# Altium integrated library Analog Devices Data Converters Analog-to-Digital Converters.IntLib: 2400 symbols (part 69 of 338)
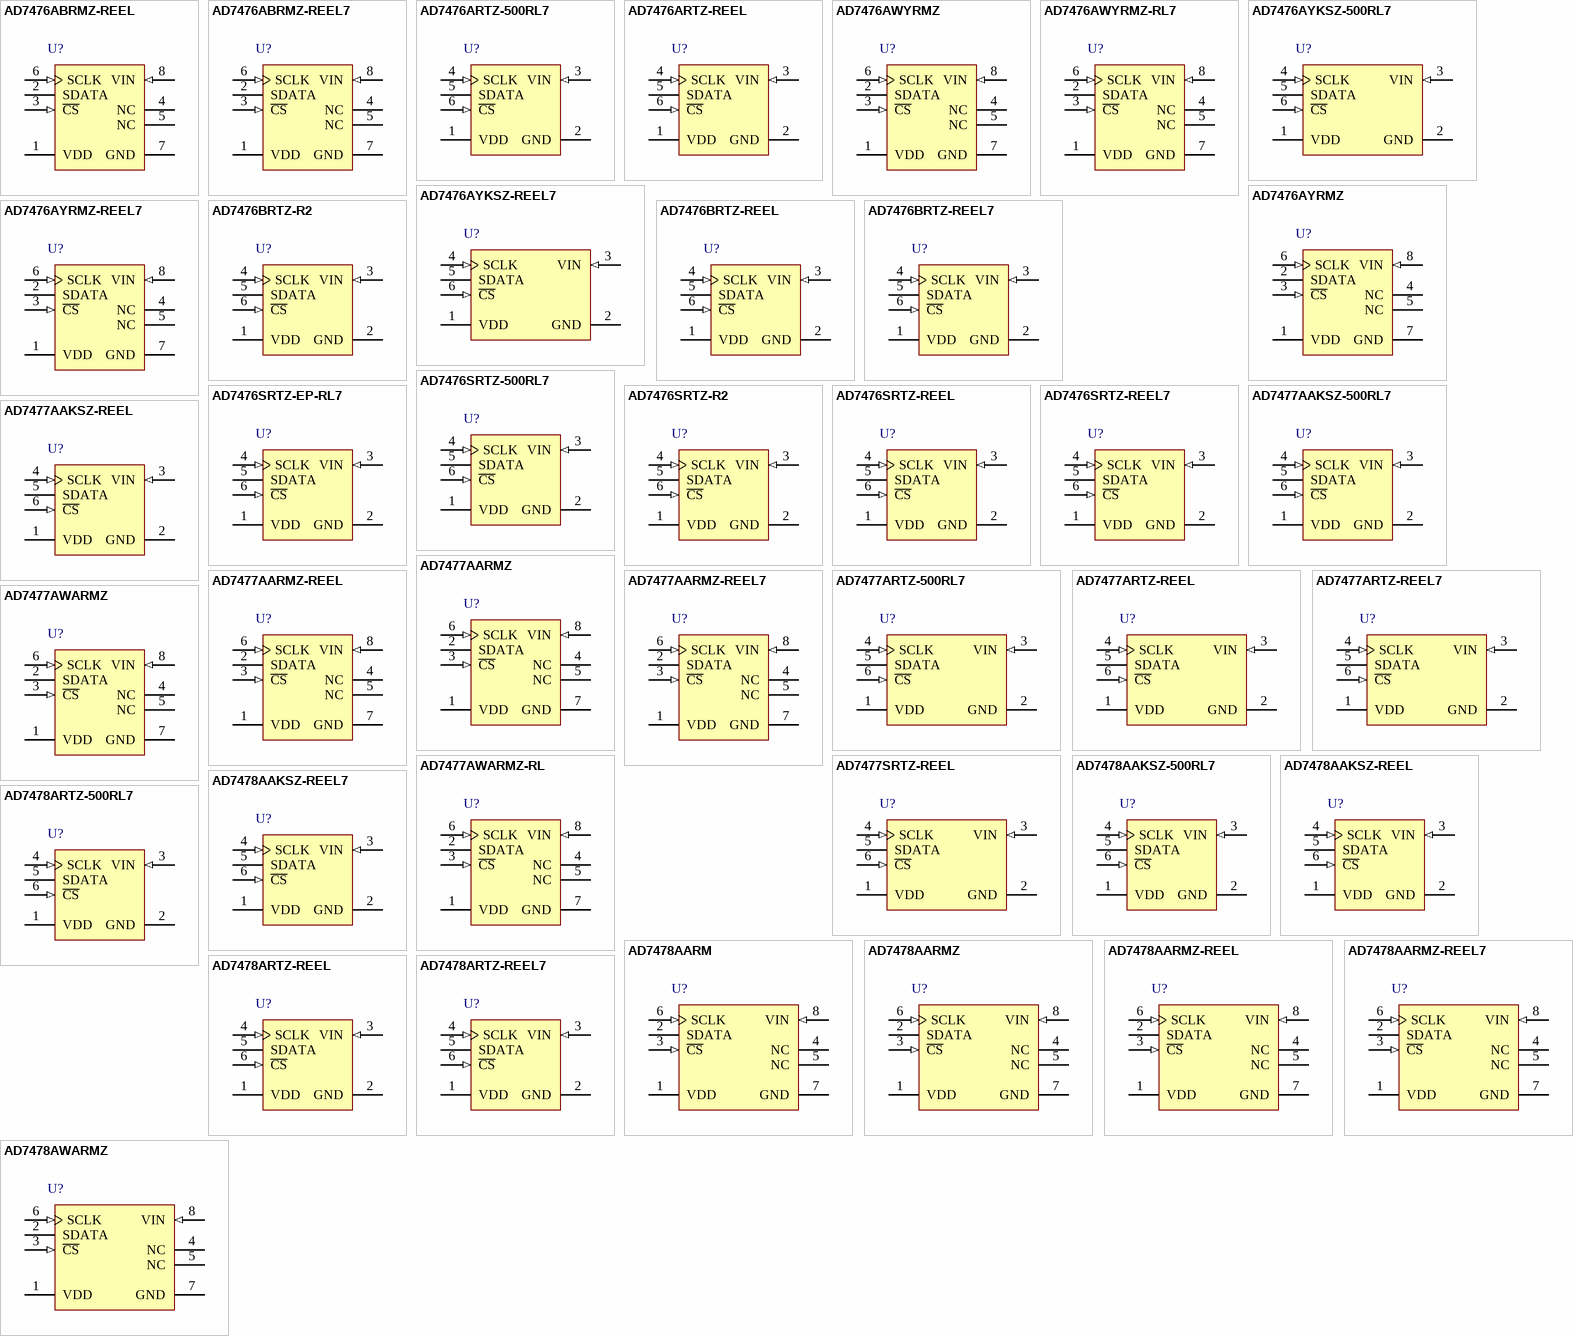
[diagram p294: symbols AD7476ABRMZ-REEL to AD7478AWARMZ]

## AD7477SRTZ-REEL
designator U?
Single 10-Bit Analog-to-Digital Converter with Serial, SPI Interface, 1MSPS, -55 to +125 degC, RJ-6, Pb-Free, Reel; Part Number: AD7477; Manufacturer: Analog Devices; Resolution (Bits): 10; Channels: 1; Throughput Rate (SPS): 1M; Interface: Ser, SPI; DatasheetVersion: Rev.F; PackageVersion: 121608-A; PackageReference: RJ-6; PackageDescription: 6-Lead Small Outline Transistor Package [SOT-23]; RoHS: Y; Packing: Reel; Mounting Technology: Surface Mount; Code_JEDEC: MO-178-AB; ComponentLink1Description: Manufacturer URL; ComponentLink1URL: http://www.analog.com/en/index.html; ComponentLink2Description: Datasheet; ComponentLink2URL: http://www.analog.com/static/imported-files/data_sheets/AD7476_7477_7478.pdf; ComponentLink3Description: Package Specification; ComponentLink3URL: http://www.analog.com/static/imported-files/packages/PKG_PDF/SOT-23(RJ)/RJ_6.pdf; ComponentLink4Description: Product URL; ComponentLink4URL: http://www.analog.com/en/analog-to-digital-converters/ad-converters/ad7477/products/product.html
footprint RJ-6_N (SOT23, 6-Leads, Body 2.9x1.6mm, Pitch 0.95mm, Lead Span 2.8mm, IPC Medium Density)
footprint RJ-6_L (SOT23, 6-Leads, Body 2.9x1.6mm, Pitch 0.95mm, Lead Span 2.8mm, IPC High Density)
footprint RJ-6_M (SOT23, 6-Leads, Body 2.9x1.6mm, Pitch 0.95mm, Lead Span 2.8mm, IPC Low Density)
pins: 1 VDD (power) "Power Supply Input. The VDD range for the AD7476/AD7477/AD7478 is from 2.35 V to 5.25 V.", 2 GND (power) "Analog Ground. Ground reference point for all circuitry on the part. All analog input signals should be referred to this GND voltage.", 3 VIN (in) "Analog Input. Single-ended analog input channel. The input range is 0 V to VDD.", 4 SCLK (in) "Serial Clock. Logic input. SCLK provides the serial clock for accessing data from the part. This clock input is also used as the clock source for the AD7477 conversion process.", 5 SDATA (hiz) "Data Out. Logic output. The conversion result is provided on this output as a serial data stream. The bits are clocked out on the falling edge of the SCLK input. The data stream from the AD7476 consists of four leading zeros (See Datasheet)", 6 ~{CS} (in) "Chip Select. Active low logic input. This input provides the dual function of initiating conversions on the AD7476/AD7477/AD7478 and framing the serial data transfer."

## AD7478AAKSZ-500RL7
designator U?
Single 8-Bit Analog-to-Digital Converter with Serial, SPI Interface,2.35 V, 1.2MSPS, -40 to +85 degC, KS-6, Pb-Free, Reel; Part Number: AD7478A; Manufacturer: Analog Devices; Resolution (Bits): 8; Channels: 1; Throughput Rate (SPS): 1.2M; Interface: Ser, SPI; Automotive Qualified: Yes; DatasheetVersion: Rev.F; PackageVersion: 072809-A; PackageReference: KS-6; PackageDescription: 6-Lead Thin Shrink Small Outline Transistor Package [SC70]; RoHS: Y; Packing: Reel; Mounting Technology: Surface Mount; Code_JEDEC: MO-203-AB; ComponentLink1Description: Manufacturer URL; ComponentLink1URL: http://www.analog.com/en/index.html; ComponentLink2Description: Datasheet; ComponentLink2URL: http://www.analog.com/static/imported-files/data_sheets/AD7476A_7477A_7478A.pdf; ComponentLink3Description: Package Specification; ComponentLink3URL: http://www.analog.com/static/imported-files/packages/PKG_PDF/SC70(KS)/KS_6.pdf; ComponentLink4Description: Product URL; ComponentLink4URL: http://www.analog.com/en/analog-to-digital-converters/ad-converters/ad7478a/products/product.html
footprint KS-6_N (SOT23, 6-Leads, Body 2x1.3mm, Pitch 0.65mm, Lead Span 2.1mm, IPC Medium Density)
footprint KS-6_L (SOT23, 6-Leads, Body 2x1.3mm, Pitch 0.65mm, Lead Span 2.1mm, IPC High Density)
footprint KS-6_M (SOT23, 6-Leads, Body 2x1.3mm, Pitch 0.65mm, Lead Span 2.1mm, IPC Low Density)
pins: 1 VDD (power) "Power Supply Input. The VDD range for AD7476A/AD7477A/AD7478A is from 2.35 V to 5.25 V.", 2 GND (power) "Analog Ground. Ground reference point for all circuitry on AD7476A/AD7477A/AD7478A. Refer all analog input signals to this GND voltage.", 3 VIN (in) "Analog Input. Single-ended analog input channel. The input range is 0 V to VDD.", 4 SCLK (in) "Serial Clock. Logic input. SCLK provides the serial clock for accessing data from the part. This clock input is also used as the clock source for the conversion process of AD7476A/AD7477A/AD7478A.", 5 SDATA (hiz) "Data Out. Logic output. The conversion result from AD7476A/AD7477A/AD7478A is provided on this output as a serial data stream. The bits are clocked out on the falling edge of the SCLK input. The data stream from the AD7476A (See Datasheet)", 6 ~{CS} (in) "Chip Select. Active low logic input. This input provides the dual function of initiating conversions on the AD7476A/AD7477A/AD7478A and also frames the serial data transfer."

## AD7478AAKSZ-REEL
designator U?
Single 8-Bit Analog-to-Digital Converter with Serial, SPI Interface,2.35 V, 1.2MSPS, -40 to +85 degC, KS-6, Pb-Free, Reel; Part Number: AD7478A; Manufacturer: Analog Devices; Resolution (Bits): 8; Channels: 1; Throughput Rate (SPS): 1.2M; Interface: Ser, SPI; Automotive Qualified: Yes; DatasheetVersion: Rev.F; PackageVersion: 072809-A; PackageReference: KS-6; PackageDescription: 6-Lead Thin Shrink Small Outline Transistor Package [SC70]; RoHS: Y; Packing: Reel; Mounting Technology: Surface Mount; Code_JEDEC: MO-203-AB; ComponentLink1Description: Manufacturer URL; ComponentLink1URL: http://www.analog.com/en/index.html; ComponentLink2Description: Datasheet; ComponentLink2URL: http://www.analog.com/static/imported-files/data_sheets/AD7476A_7477A_7478A.pdf; ComponentLink3Description: Package Specification; ComponentLink3URL: http://www.analog.com/static/imported-files/packages/PKG_PDF/SC70(KS)/KS_6.pdf; ComponentLink4Description: Product URL; ComponentLink4URL: http://www.analog.com/en/analog-to-digital-converters/ad-converters/ad7478a/products/product.html
footprint KS-6_N (SOT23, 6-Leads, Body 2x1.3mm, Pitch 0.65mm, Lead Span 2.1mm, IPC Medium Density)
footprint KS-6_L (SOT23, 6-Leads, Body 2x1.3mm, Pitch 0.65mm, Lead Span 2.1mm, IPC High Density)
footprint KS-6_M (SOT23, 6-Leads, Body 2x1.3mm, Pitch 0.65mm, Lead Span 2.1mm, IPC Low Density)
pins: 1 VDD (power) "Power Supply Input. The VDD range for AD7476A/AD7477A/AD7478A is from 2.35 V to 5.25 V.", 2 GND (power) "Analog Ground. Ground reference point for all circuitry on AD7476A/AD7477A/AD7478A. Refer all analog input signals to this GND voltage.", 3 VIN (in) "Analog Input. Single-ended analog input channel. The input range is 0 V to VDD.", 4 SCLK (in) "Serial Clock. Logic input. SCLK provides the serial clock for accessing data from the part. This clock input is also used as the clock source for the conversion process of AD7476A/AD7477A/AD7478A.", 5 SDATA (hiz) "Data Out. Logic output. The conversion result from AD7476A/AD7477A/AD7478A is provided on this output as a serial data stream. The bits are clocked out on the falling edge of the SCLK input. The data stream from the AD7476A (See Datasheet)", 6 ~{CS} (in) "Chip Select. Active low logic input. This input provides the dual function of initiating conversions on the AD7476A/AD7477A/AD7478A and also frames the serial data transfer."

## AD7478AAKSZ-REEL7
designator U?
Single 8-Bit Analog-to-Digital Converter with Serial, SPI Interface,2.35 V, 1.2MSPS, -40 to +85 degC, KS-6, Pb-Free, Reel; Part Number: AD7478A; Manufacturer: Analog Devices; Resolution (Bits): 8; Channels: 1; Throughput Rate (SPS): 1.2M; Interface: Ser, SPI; Automotive Qualified: Yes; DatasheetVersion: Rev.F; PackageVersion: 072809-A; PackageReference: KS-6; PackageDescription: 6-Lead Thin Shrink Small Outline Transistor Package [SC70]; RoHS: Y; Packing: Reel; Mounting Technology: Surface Mount; Code_JEDEC: MO-203-AB; ComponentLink1Description: Manufacturer URL; ComponentLink1URL: http://www.analog.com/en/index.html; ComponentLink2Description: Datasheet; ComponentLink2URL: http://www.analog.com/static/imported-files/data_sheets/AD7476A_7477A_7478A.pdf; ComponentLink3Description: Package Specification; ComponentLink3URL: http://www.analog.com/static/imported-files/packages/PKG_PDF/SC70(KS)/KS_6.pdf; ComponentLink4Description: Product URL; ComponentLink4URL: http://www.analog.com/en/analog-to-digital-converters/ad-converters/ad7478a/products/product.html
footprint KS-6_N (SOT23, 6-Leads, Body 2x1.3mm, Pitch 0.65mm, Lead Span 2.1mm, IPC Medium Density)
footprint KS-6_L (SOT23, 6-Leads, Body 2x1.3mm, Pitch 0.65mm, Lead Span 2.1mm, IPC High Density)
footprint KS-6_M (SOT23, 6-Leads, Body 2x1.3mm, Pitch 0.65mm, Lead Span 2.1mm, IPC Low Density)
pins: 1 VDD (power) "Power Supply Input. The VDD range for AD7476A/AD7477A/AD7478A is from 2.35 V to 5.25 V.", 2 GND (power) "Analog Ground. Ground reference point for all circuitry on AD7476A/AD7477A/AD7478A. Refer all analog input signals to this GND voltage.", 3 VIN (in) "Analog Input. Single-ended analog input channel. The input range is 0 V to VDD.", 4 SCLK (in) "Serial Clock. Logic input. SCLK provides the serial clock for accessing data from the part. This clock input is also used as the clock source for the conversion process of AD7476A/AD7477A/AD7478A.", 5 SDATA (hiz) "Data Out. Logic output. The conversion result from AD7476A/AD7477A/AD7478A is provided on this output as a serial data stream. The bits are clocked out on the falling edge of the SCLK input. The data stream from the AD7476A (See Datasheet)", 6 ~{CS} (in) "Chip Select. Active low logic input. This input provides the dual function of initiating conversions on the AD7476A/AD7477A/AD7478A and also frames the serial data transfer."

## AD7478AARM
designator U?
Single 8-Bit Analog-to-Digital Converter with Serial, SPI Interface,2.35 V, 1.2MSPS, -40 to +85 degC, RM-8, Tube; Part Number: AD7478A; Manufacturer: Analog Devices; Resolution (Bits): 8; Channels: 1; Throughput Rate (SPS): 1.2M; Interface: Ser, SPI; Automotive Qualified: Yes; DatasheetVersion: Rev.F; PackageVersion: Aug-2005; PackageReference: RM-8; PackageDescription: 8-Lead Mini Small Outline Package [MSOP]; RoHS: N; Packing: Tube; Mounting Technology: Surface Mount; Code_JEDEC: MO-187-AA; ComponentLink1Description: Manufacturer URL; ComponentLink1URL: http://www.analog.com/en/index.html; ComponentLink2Description: Datasheet; ComponentLink2URL: http://www.analog.com/static/imported-files/data_sheets/AD7476A_7477A_7478A.pdf; ComponentLink3Description: Package Specification; ComponentLink3URL: http://www.analog.com/static/imported-files/packages/PKG_PDF/MSOP%28RM%29/RM_8.pdf; ComponentLink4Description: Product URL; ComponentLink4URL: http://www.analog.com/en/analog-to-digital-converters/ad-converters/ad7478a/products/product.html
footprint RM-8_N (TSOP, 8-Leads, Body 3x3mm, Pitch 0.65mm, IPC Medium Density)
footprint RM-8_L (TSOP, 8-Leads, Body 3x3mm, Pitch 0.65mm, IPC High Density)
footprint RM-8_M (TSOP, 8-Leads, Body 3x3mm, Pitch 0.65mm, IPC Low Density)
pins: 1 VDD (power) "Power Supply Input. The VDD range for AD7476A/AD7477A/AD7478A is from 2.35 V to 5.25 V.", 2 SDATA (hiz) "Data Out. Logic output. The conversion result from AD7476A/AD7477A/AD7478A is provided on this output as a serial data stream. The bits are clocked out on the falling edge of the SCLK input. The data stream from the AD7476A (See Datasheet)", 3 ~{CS} (in) "Chip Select. Active low logic input. This input provides the dual function of initiating conversions on the AD7476A/AD7477A/AD7478A and also frames the serial data transfer.", 4 NC "No Connect.", 5 NC "No Connect.", 6 SCLK (in) "Serial Clock. Logic input. SCLK provides the serial clock for accessing data from the part. This clock input is also used as the clock source for the conversion process of AD7476A/AD7477A/AD7478A.", 7 GND (power) "Analog Ground. Ground reference point for all circuitry on AD7476A/AD7477A/AD7478A. Refer all analog input signals to this GND voltage.", 8 VIN (in) "Analog Input. Single-ended analog input channel. The input range is 0 V to VDD."

## AD7478AARMZ
designator U?
Single 8-Bit Analog-to-Digital Converter with Serial, SPI Interface,2.35 V, 1.2MSPS, -40 to +85 degC, RM-8, Pb-Free, Tube; Part Number: AD7478A; Manufacturer: Analog Devices; Resolution (Bits): 8; Channels: 1; Throughput Rate (SPS): 1.2M; Interface: Ser, SPI; Automotive Qualified: Yes; DatasheetVersion: Rev.F; PackageVersion: Aug-2005; PackageReference: RM-8; PackageDescription: 8-Lead Mini Small Outline Package [MSOP]; RoHS: Y; Packing: Tube; Mounting Technology: Surface Mount; Code_JEDEC: MO-187-AA; ComponentLink1Description: Manufacturer URL; ComponentLink1URL: http://www.analog.com/en/index.html; ComponentLink2Description: Datasheet; ComponentLink2URL: http://www.analog.com/static/imported-files/data_sheets/AD7476A_7477A_7478A.pdf; ComponentLink3Description: Package Specification; ComponentLink3URL: http://www.analog.com/static/imported-files/packages/PKG_PDF/MSOP%28RM%29/RM_8.pdf; ComponentLink4Description: Product URL; ComponentLink4URL: http://www.analog.com/en/analog-to-digital-converters/ad-converters/ad7478a/products/product.html
footprint RM-8_N (TSOP, 8-Leads, Body 3x3mm, Pitch 0.65mm, IPC Medium Density)
footprint RM-8_L (TSOP, 8-Leads, Body 3x3mm, Pitch 0.65mm, IPC High Density)
footprint RM-8_M (TSOP, 8-Leads, Body 3x3mm, Pitch 0.65mm, IPC Low Density)
pins: 1 VDD (power) "Power Supply Input. The VDD range for AD7476A/AD7477A/AD7478A is from 2.35 V to 5.25 V.", 2 SDATA (hiz) "Data Out. Logic output. The conversion result from AD7476A/AD7477A/AD7478A is provided on this output as a serial data stream. The bits are clocked out on the falling edge of the SCLK input. The data stream from the AD7476A (See Datasheet)", 3 ~{CS} (in) "Chip Select. Active low logic input. This input provides the dual function of initiating conversions on the AD7476A/AD7477A/AD7478A and also frames the serial data transfer.", 4 NC "No Connect.", 5 NC "No Connect.", 6 SCLK (in) "Serial Clock. Logic input. SCLK provides the serial clock for accessing data from the part. This clock input is also used as the clock source for the conversion process of AD7476A/AD7477A/AD7478A.", 7 GND (power) "Analog Ground. Ground reference point for all circuitry on AD7476A/AD7477A/AD7478A. Refer all analog input signals to this GND voltage.", 8 VIN (in) "Analog Input. Single-ended analog input channel. The input range is 0 V to VDD."

## AD7478AARMZ-REEL
designator U?
Single 8-Bit Analog-to-Digital Converter with Serial, SPI Interface,2.35 V, 1.2MSPS, -40 to +85 degC, RM-8, Pb-Free, Reel; Part Number: AD7478A; Manufacturer: Analog Devices; Resolution (Bits): 8; Channels: 1; Throughput Rate (SPS): 1.2M; Interface: Ser, SPI; Automotive Qualified: Yes; DatasheetVersion: Rev.F; PackageVersion: Aug-2005; PackageReference: RM-8; PackageDescription: 8-Lead Mini Small Outline Package [MSOP]; RoHS: Y; Packing: Reel; Mounting Technology: Surface Mount; Code_JEDEC: MO-187-AA; ComponentLink1Description: Manufacturer URL; ComponentLink1URL: http://www.analog.com/en/index.html; ComponentLink2Description: Datasheet; ComponentLink2URL: http://www.analog.com/static/imported-files/data_sheets/AD7476A_7477A_7478A.pdf; ComponentLink3Description: Package Specification; ComponentLink3URL: http://www.analog.com/static/imported-files/packages/PKG_PDF/MSOP%28RM%29/RM_8.pdf; ComponentLink4Description: Product URL; ComponentLink4URL: http://www.analog.com/en/analog-to-digital-converters/ad-converters/ad7478a/products/product.html
footprint RM-8_N (TSOP, 8-Leads, Body 3x3mm, Pitch 0.65mm, IPC Medium Density)
footprint RM-8_L (TSOP, 8-Leads, Body 3x3mm, Pitch 0.65mm, IPC High Density)
footprint RM-8_M (TSOP, 8-Leads, Body 3x3mm, Pitch 0.65mm, IPC Low Density)
pins: 1 VDD (power) "Power Supply Input. The VDD range for AD7476A/AD7477A/AD7478A is from 2.35 V to 5.25 V.", 2 SDATA (hiz) "Data Out. Logic output. The conversion result from AD7476A/AD7477A/AD7478A is provided on this output as a serial data stream. The bits are clocked out on the falling edge of the SCLK input. The data stream from the AD7476A (See Datasheet)", 3 ~{CS} (in) "Chip Select. Active low logic input. This input provides the dual function of initiating conversions on the AD7476A/AD7477A/AD7478A and also frames the serial data transfer.", 4 NC "No Connect.", 5 NC "No Connect.", 6 SCLK (in) "Serial Clock. Logic input. SCLK provides the serial clock for accessing data from the part. This clock input is also used as the clock source for the conversion process of AD7476A/AD7477A/AD7478A.", 7 GND (power) "Analog Ground. Ground reference point for all circuitry on AD7476A/AD7477A/AD7478A. Refer all analog input signals to this GND voltage.", 8 VIN (in) "Analog Input. Single-ended analog input channel. The input range is 0 V to VDD."

## AD7478AARMZ-REEL7
designator U?
Single 8-Bit Analog-to-Digital Converter with Serial, SPI Interface,2.35 V, 1.2MSPS, -40 to +85 degC, RM-8, Pb-Free, Reel; Part Number: AD7478A; Manufacturer: Analog Devices; Resolution (Bits): 8; Channels: 1; Throughput Rate (SPS): 1.2M; Interface: Ser, SPI; Automotive Qualified: Yes; DatasheetVersion: Rev.F; PackageVersion: Aug-2005; PackageReference: RM-8; PackageDescription: 8-Lead Mini Small Outline Package [MSOP]; RoHS: Y; Packing: Reel; Mounting Technology: Surface Mount; Code_JEDEC: MO-187-AA; ComponentLink1Description: Manufacturer URL; ComponentLink1URL: http://www.analog.com/en/index.html; ComponentLink2Description: Datasheet; ComponentLink2URL: http://www.analog.com/static/imported-files/data_sheets/AD7476A_7477A_7478A.pdf; ComponentLink3Description: Package Specification; ComponentLink3URL: http://www.analog.com/static/imported-files/packages/PKG_PDF/MSOP%28RM%29/RM_8.pdf; ComponentLink4Description: Product URL; ComponentLink4URL: http://www.analog.com/en/analog-to-digital-converters/ad-converters/ad7478a/products/product.html
footprint RM-8_N (TSOP, 8-Leads, Body 3x3mm, Pitch 0.65mm, IPC Medium Density)
footprint RM-8_L (TSOP, 8-Leads, Body 3x3mm, Pitch 0.65mm, IPC High Density)
footprint RM-8_M (TSOP, 8-Leads, Body 3x3mm, Pitch 0.65mm, IPC Low Density)
pins: 1 VDD (power) "Power Supply Input. The VDD range for AD7476A/AD7477A/AD7478A is from 2.35 V to 5.25 V.", 2 SDATA (hiz) "Data Out. Logic output. The conversion result from AD7476A/AD7477A/AD7478A is provided on this output as a serial data stream. The bits are clocked out on the falling edge of the SCLK input. The data stream from the AD7476A (See Datasheet)", 3 ~{CS} (in) "Chip Select. Active low logic input. This input provides the dual function of initiating conversions on the AD7476A/AD7477A/AD7478A and also frames the serial data transfer.", 4 NC "No Connect.", 5 NC "No Connect.", 6 SCLK (in) "Serial Clock. Logic input. SCLK provides the serial clock for accessing data from the part. This clock input is also used as the clock source for the conversion process of AD7476A/AD7477A/AD7478A.", 7 GND (power) "Analog Ground. Ground reference point for all circuitry on AD7476A/AD7477A/AD7478A. Refer all analog input signals to this GND voltage.", 8 VIN (in) "Analog Input. Single-ended analog input channel. The input range is 0 V to VDD."

## AD7478ARTZ-500RL7
designator U?
Single 8-Bit Analog-to-Digital Converter with Serial, SPI Interface, 1MSPS, -40 to +85 degC, RJ-6, Pb-Free, Reel; Part Number: AD7478; Manufacturer: Analog Devices; Resolution (Bits): 8; Channels: 1; Throughput Rate (SPS): 1M; Interface: Ser, SPI; DatasheetVersion: Rev.F; PackageVersion: 121608-A; PackageReference: RJ-6; PackageDescription: 6-Lead Small Outline Transistor Package [SOT-23]; RoHS: Y; Packing: Reel; Mounting Technology: Surface Mount; Code_JEDEC: MO-178-AB; ComponentLink1Description: Manufacturer URL; ComponentLink1URL: http://www.analog.com/en/index.html; ComponentLink2Description: Datasheet; ComponentLink2URL: http://www.analog.com/static/imported-files/data_sheets/AD7476_7477_7478.pdf; ComponentLink3Description: Package Specification; ComponentLink3URL: http://www.analog.com/static/imported-files/packages/PKG_PDF/SOT-23(RJ)/RJ_6.pdf; ComponentLink4Description: Product URL; ComponentLink4URL: http://www.analog.com/en/analog-to-digital-converters/ad-converters/ad7478/products/product.html
footprint RJ-6_N (SOT23, 6-Leads, Body 2.9x1.6mm, Pitch 0.95mm, Lead Span 2.8mm, IPC Medium Density)
footprint RJ-6_L (SOT23, 6-Leads, Body 2.9x1.6mm, Pitch 0.95mm, Lead Span 2.8mm, IPC High Density)
footprint RJ-6_M (SOT23, 6-Leads, Body 2.9x1.6mm, Pitch 0.95mm, Lead Span 2.8mm, IPC Low Density)
pins: 1 VDD (power) "Power Supply Input. The VDD range for the AD7476/AD7477/AD7478 is from 2.35 V to 5.25 V.", 2 GND (power) "Analog Ground. Ground reference point for all circuitry on the part. All analog input signals should be referred to this  GND voltage.", 3 VIN (in) "Analog Input. Single-ended analog input channel. The input range is 0 V to VDD.", 4 SCLK (in) "Serial Clock. Logic input. SCLK provides the serial clock for accessing data from the part. This clock input is also used as the clock source for the AD7476/AD7477/AD7478 conversion process.", 5 SDATA (hiz) "Data Out. Logic output. The conversion result is provided on this output as a serial data stream. The bits are clocked out on the falling edge of the SCLK input. The data stream from the AD7476 consists of four leading zeros (See Datasheet)", 6 ~{CS} (in) "Chip Select. Active low logic input. This input provides the dual function of initiating conversions on the AD7476/AD7477/AD7478 and framing the serial data transfer."

## AD7478ARTZ-REEL
designator U?
Single 8-Bit Analog-to-Digital Converter with Serial, SPI Interface, 1MSPS, -40 to +85 degC, RJ-6, Pb-Free, Reel; Part Number: AD7478; Manufacturer: Analog Devices; Resolution (Bits): 8; Channels: 1; Throughput Rate (SPS): 1M; Interface: Ser, SPI; DatasheetVersion: Rev.F; PackageVersion: 121608-A; PackageReference: RJ-6; PackageDescription: 6-Lead Small Outline Transistor Package [SOT-23]; RoHS: Y; Packing: Reel; Mounting Technology: Surface Mount; Code_JEDEC: MO-178-AB; ComponentLink1Description: Manufacturer URL; ComponentLink1URL: http://www.analog.com/en/index.html; ComponentLink2Description: Datasheet; ComponentLink2URL: http://www.analog.com/static/imported-files/data_sheets/AD7476_7477_7478.pdf; ComponentLink3Description: Package Specification; ComponentLink3URL: http://www.analog.com/static/imported-files/packages/PKG_PDF/SOT-23(RJ)/RJ_6.pdf; ComponentLink4Description: Product URL; ComponentLink4URL: http://www.analog.com/en/analog-to-digital-converters/ad-converters/ad7478/products/product.html
footprint RJ-6_N (SOT23, 6-Leads, Body 2.9x1.6mm, Pitch 0.95mm, Lead Span 2.8mm, IPC Medium Density)
footprint RJ-6_L (SOT23, 6-Leads, Body 2.9x1.6mm, Pitch 0.95mm, Lead Span 2.8mm, IPC High Density)
footprint RJ-6_M (SOT23, 6-Leads, Body 2.9x1.6mm, Pitch 0.95mm, Lead Span 2.8mm, IPC Low Density)
pins: 1 VDD (power) "Power Supply Input. The VDD range for the AD7476/AD7477/AD7478 is from 2.35 V to 5.25 V.", 2 GND (power) "Analog Ground. Ground reference point for all circuitry on the part. All analog input signals should be referred to this  GND voltage.", 3 VIN (in) "Analog Input. Single-ended analog input channel. The input range is 0 V to VDD.", 4 SCLK (in) "Serial Clock. Logic input. SCLK provides the serial clock for accessing data from the part. This clock input is also used as the clock source for the AD7476/AD7477/AD7478 conversion process.", 5 SDATA (hiz) "Data Out. Logic output. The conversion result is provided on this output as a serial data stream. The bits are clocked out on the falling edge of the SCLK input. The data stream from the AD7476 consists of four leading zeros (See Datasheet)", 6 ~{CS} (in) "Chip Select. Active low logic input. This input provides the dual function of initiating conversions on the AD7476/AD7477/AD7478 and framing the serial data transfer."